# EAGLE library part 691401710010 (library Wurth_Elektronik_Electromechanic_Terminal_Blocks_Connectors_rev16b)
WR-TBL Terminal block - serie 401 5,0mm - Spring clamp/Screw less - horizontal entry Code:Con_TBL_Screwless_5.00_6914017100xxB Created 2014-12-22, aslant tao 2014 (C) Würth Elektronik
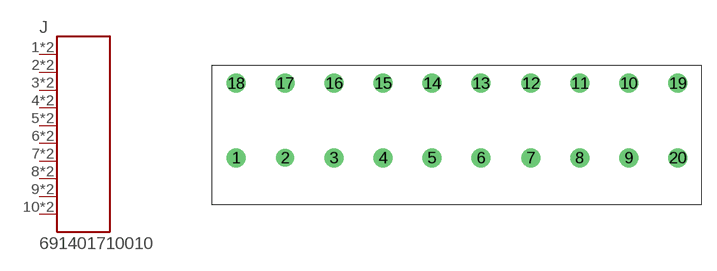
[diagram p216: symbol with the pads of 691401710010; footprint 691401710010]

Designator prefix J

## 691401710010  [691401710010]
1  1  pas
2  2  pas
3  3  pas
4  4  pas
5  5  pas
6  6  pas
7  7  pas
8  8  pas
9  9  pas
10  10  pas
11  10  pas
12  9  pas
13  8  pas
14  7  pas
15  6  pas
16  5  pas
17  4  pas
18  3  pas
19  2  pas
20  1  pas

## Footprint 691401710010 (pad centres in mm)
WR-TBL Serie 401 - 5.0mm Screwless Horizontal Entry - 2 mm2 Wires, 10 Pins
drill 1.3: 1 -40.08,0; 3 -30.08,0; 4 -25.08,0; 5 -20.08,0; 6 -15.08,0; 7 -10,0; 8 -5,0; 9 0,0; 10 0,7.62; 11 -5,7.62; 12 -10,7.62; 13 -15.08,7.62; 14 -20.08,7.62; 15 -25.08,7.62; 16 -30.08,7.62; 17 -35.08,7.62; 18 -40.08,7.62; 19 5,7.62; 20 5,0
drill 1.2: 2 -35.08,0